# Altium footprint library CI interfaz RS232.PcbLib: 1 footprints
Each footprint in its own frame and in the unit in brackets; x right, y up, seen from the top. Pads: shape width x height; smd on the part's side, far side on the other; paste and mask are expansions set on the pad; w line width, h text height; cw(c..) or ccw(c..) is an arc to the next point about the centre after c.
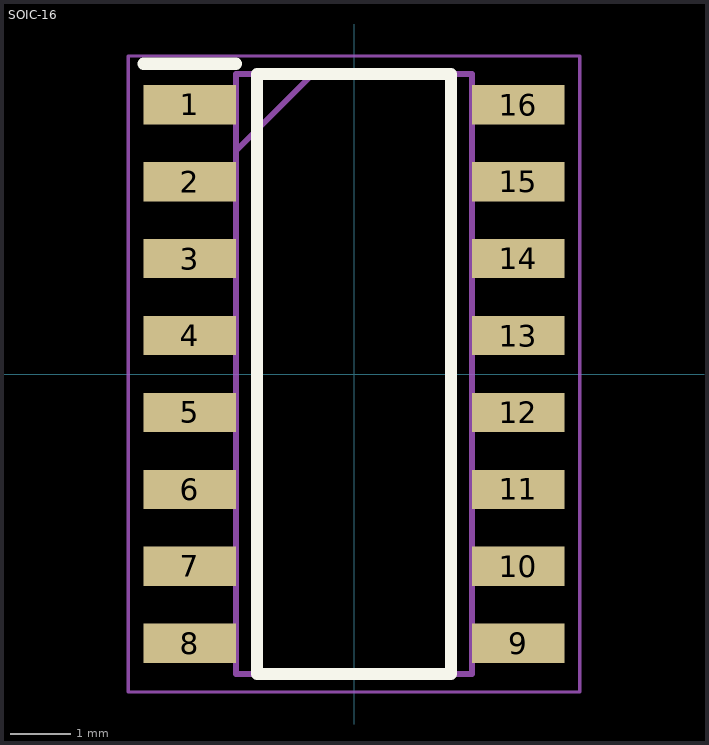
[diagram p0: the footprint, top view; thin cyan lines are the x and y axes]

## SOIC-16 [mm]
pads (16):
  rect 1.525x0.65 smd: 1(-2.712,4.445) 2(-2.712,3.175) 3(-2.712,1.905) 4(-2.712,0.635) 5(-2.712,-0.635) 6(-2.712,-1.905) 7(-2.712,-3.175) 8(-2.712,-4.445) 9(2.712,-4.445) 10(2.712,-3.175) 11(2.712,-1.905) 12(2.712,-0.635) 13(2.712,0.635) 14(2.712,1.905) 15(2.712,3.175) 16(2.712,4.445)
Top Overlay:
  lines w0.2: -3.475,5.12 -1.95,5.12 ; -1.6,-4.95 -1.6,4.95 1.6,4.95 1.6,-4.95 -1.6,-4.95
Mechanical 13:
  lines w0.1: -1.95,3.68 -0.68,4.95 ; -1.95,-4.95 -1.95,4.95 1.95,4.95 1.95,-4.95 -1.95,-4.95
Mechanical 15:
  lines w0.05: -3.725,-5.25 -3.725,5.25 3.725,5.25 3.725,-5.25 -3.725,-5.25
3D body "SOIC-16.STEP": height 1.4, standoff 0, extent -3,-4.95 3,4.95